# EAGLE library part BMP390 (library BLTFootprints)
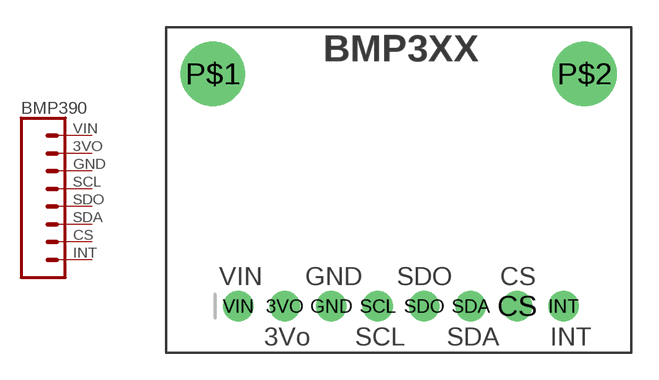
[diagram p2: symbol with the pads of MICROBUILDER_1X08_ROUND; footprint MICROBUILDER_1X08_ROUND]

Designator prefix -

## BMP390  [MICROBUILDER_1X08_ROUND]
3VO  3VO  pas
CS  CS  pas
GND  GND  pas
INT  INT  pas
SCL  SCL  pas
SDA  SDA  pas
SDO  SDO  pas
VIN  VIN  pas

## Footprint MICROBUILDER_1X08_ROUND (pad centres in mm)
drill 1 pad 1.676: 3VO -6.223,0; CS 6.477,0; GND -3.683,0; INT 9.017,0; SCL -1.143,0; SDA 3.937,0; SDO 1.397,0; VIN -8.763,0
drill 2.5 pad 3.2: P$1 -10.16,12.7; P$2 10.16,12.7